# Altium schematic symbol library LM5111.SchLib: 1 symbol
Pins are listed as number, name and electrical type; pins without a type are passive.

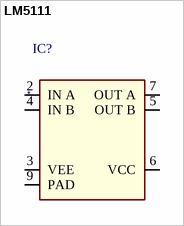
[diagram p0: symbol LM5111]

## LM5111
designator IC?
ID: LM5111-1MY/NOPB; PDF: http://www.ti.com/lit/ds/symlink/lm5111.pdf; PRICE: 1.59000; BUY_LINK: http://www.digikey.com/product-detail/en/LM5111-1MY%2FNOPB/LM5111-1MY%2FNOPBCT-ND/1117646
pins: 2 IN A, 3 VEE, 4 IN B, 5 OUT B, 6 VCC, 7 OUT A, 9 PAD